# Altium footprint library Dual-In-Line Package.PcbLib: 120 footprints (part 6 of 8)
Each footprint in its own frame and in the unit in brackets; x right, y up, seen from the top. Pads: shape width x height; smd on the part's side, far side on the other; paste and mask are expansions set on the pad; w line width, h text height; cw(c..) or ccw(c..) is an arc to the next point about the centre after c.
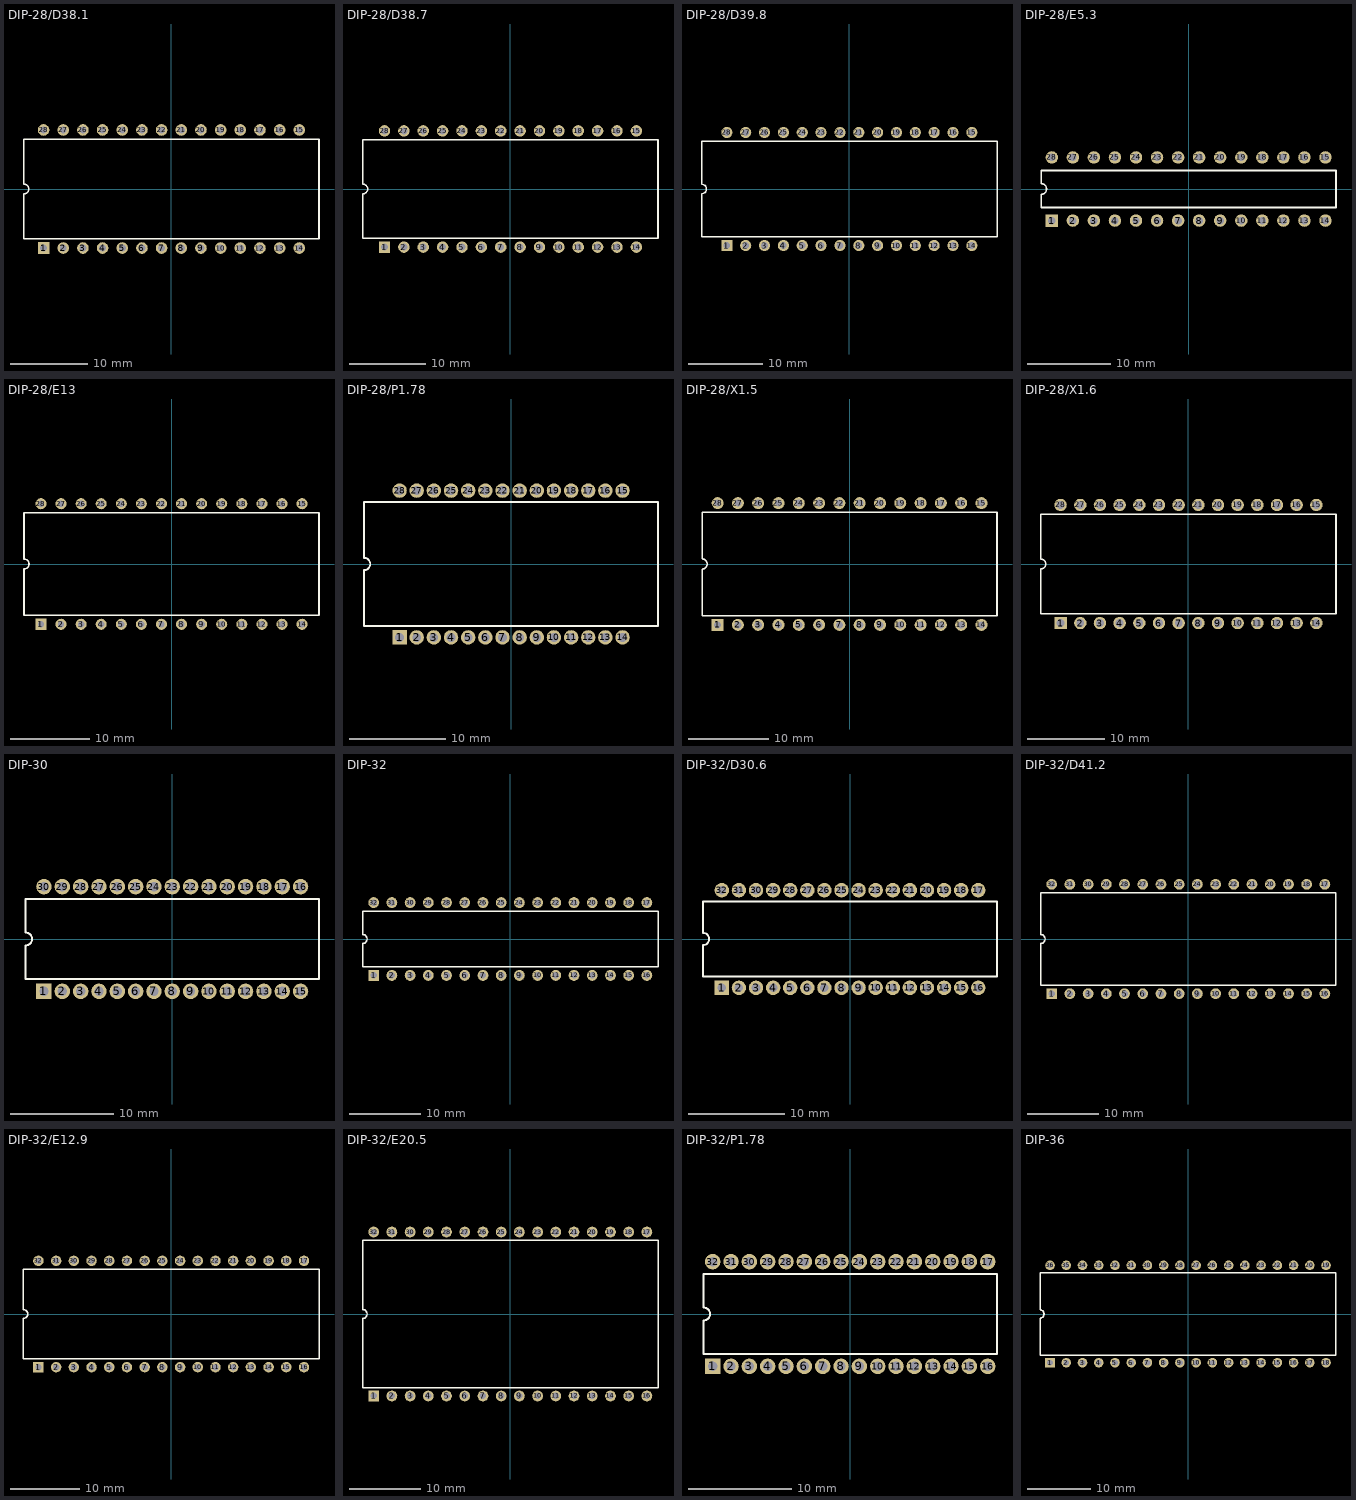
[diagram p5: the footprints below, top view; thin cyan lines are the x and y axes]

## DIP-28/D38.1 [mm] "DIP; 28 Leads; Row Spacing 15.24 mm; Pitch 2.54 mm"
height 5.08
pads (28):
  rect 1.5x1.5 hole 0.9: 1(-16.51,-7.62)
  round 1.5 hole 0.9: 2(-13.97,-7.62) 3(-11.43,-7.62) 4(-8.89,-7.62) 5(-6.35,-7.62) 6(-3.81,-7.62) 7(-1.27,-7.62) 8(1.27,-7.62) 9(3.81,-7.62) 10(6.35,-7.62) 11(8.89,-7.62) 12(11.43,-7.62) 13(13.97,-7.62) 14(16.51,-7.62) 15(16.51,7.62) 16(13.97,7.62) 17(11.43,7.62) 18(8.89,7.62) 19(6.35,7.62) 20(3.81,7.62) 21(1.27,7.62) 22(-1.27,7.62) 23(-3.81,7.62) 24(-6.35,7.62) 25(-8.89,7.62) 26(-11.43,7.62) 27(-13.97,7.62) 28(-16.51,7.62)
Top Overlay:
  lines w0.2: -19.05,-6.45 19.05,-6.45 19.05,6.45 -19.05,6.45 -19.05,0.635 cw(c-19.05,0) -19.05,-0.635 -19.05,-6.45

## DIP-28/D38.7 [mm] "DIP; 28 Leads; Row Spacing 15.24 mm; Pitch 2.54 mm"
height 4.8
pads (28):
  rect 1.5x1.5 hole 0.9: 1(-16.51,-7.62)
  round 1.5 hole 0.9: 2(-13.97,-7.62) 3(-11.43,-7.62) 4(-8.89,-7.62) 5(-6.35,-7.62) 6(-3.81,-7.62) 7(-1.27,-7.62) 8(1.27,-7.62) 9(3.81,-7.62) 10(6.35,-7.62) 11(8.89,-7.62) 12(11.43,-7.62) 13(13.97,-7.62) 14(16.51,-7.62) 15(16.51,7.62) 16(13.97,7.62) 17(11.43,7.62) 18(8.89,7.62) 19(6.35,7.62) 20(3.81,7.62) 21(1.27,7.62) 22(-1.27,7.62) 23(-3.81,7.62) 24(-6.35,7.62) 25(-8.89,7.62) 26(-11.43,7.62) 27(-13.97,7.62) 28(-16.51,7.62)
Top Overlay:
  lines w0.2: -19.35,-6.45 -19.35,-0.635 ccw(c-19.35,0) -19.35,0.635 -19.35,6.45 19.35,6.45 19.35,-6.45 -19.35,-6.45

## DIP-28/D39.8 [mm] "DIP; 28 Leads; Row Spacing 15.24 mm; Pitch 2.54 mm"
height 6.35
pads (28):
  rect 1.5x1.5 hole 0.9: 1(-16.51,-7.62)
  round 1.5 hole 0.9: 2(-13.97,-7.62) 3(-11.43,-7.62) 4(-8.89,-7.62) 5(-6.35,-7.62) 6(-3.81,-7.62) 7(-1.27,-7.62) 8(1.27,-7.62) 9(3.81,-7.62) 10(6.35,-7.62) 11(8.89,-7.62) 12(11.43,-7.62) 13(13.97,-7.62) 14(16.51,-7.62) 15(16.51,7.62) 16(13.97,7.62) 17(11.43,7.62) 18(8.89,7.62) 19(6.35,7.62) 20(3.81,7.62) 21(1.27,7.62) 22(-1.27,7.62) 23(-3.81,7.62) 24(-6.35,7.62) 25(-8.89,7.62) 26(-11.43,7.62) 27(-13.97,7.62) 28(-16.51,7.62)
Top Overlay:
  lines w0.2: -19.9,-6.45 -19.9,-0.635 ccw(c-19.9,0) -19.9,0.635 -19.9,6.45 19.9,6.45 19.9,-6.45 -19.9,-6.45

## DIP-28/E5.3 [mm] "28-Pin Plastic Dual In-Line Package (PDIP)"
height 4.58
pads (28):
  rect 1.5x1.5 hole 0.9: 1(-16.51,-3.81)
  round 1.5 hole 0.9: 2(-13.97,-3.81) 3(-11.43,-3.81) 4(-8.89,-3.81) 5(-6.35,-3.81) 6(-3.81,-3.81) 7(-1.27,-3.81) 8(1.27,-3.81) 9(3.81,-3.81) 10(6.35,-3.81) 11(8.89,-3.81) 12(11.43,-3.81) 13(13.97,-3.81) 14(16.51,-3.81) 15(16.51,3.81) 16(13.97,3.81) 17(11.43,3.81) 18(8.89,3.81) 19(6.35,3.81) 20(3.81,3.81) 21(1.27,3.81) 22(-1.27,3.81) 23(-3.81,3.81) 24(-6.35,3.81) 25(-8.89,3.81) 26(-11.43,3.81) 27(-13.97,3.81) 28(-16.51,3.81)
Top Overlay:
  lines w0.2: -17.78,-2.225 17.78,-2.225 17.78,2.225 -17.78,2.225 -17.78,0.635 cw(c-17.78,0) -17.78,-0.635 -17.78,-2.225

## DIP-28/E13 [mm] "DIP; 28 Leads; Row Spacing 15.24 mm; Pitch 2.54 mm"
height 7.75
pads (28):
  rect 1.4x1.4 hole 0.8: 1(-16.51,-7.62)
  round 1.4 hole 0.8: 2(-13.97,-7.62) 3(-11.43,-7.62) 4(-8.89,-7.62) 5(-6.35,-7.62) 6(-3.81,-7.62) 7(-1.27,-7.62) 8(1.27,-7.62) 9(3.81,-7.62) 10(6.35,-7.62) 11(8.89,-7.62) 12(11.43,-7.62) 13(13.97,-7.62) 14(16.51,-7.62) 15(16.51,7.62) 16(13.97,7.62) 17(11.43,7.62) 18(8.89,7.62) 19(6.35,7.62) 20(3.81,7.62) 21(1.27,7.62) 22(-1.27,7.62) 23(-3.81,7.62) 24(-6.35,7.62) 25(-8.89,7.62) 26(-11.43,7.62) 27(-13.97,7.62) 28(-16.51,7.62)
Top Overlay:
  lines w0.2: -18.65,-6.5 18.65,-6.5 18.65,6.5 -18.65,6.5 -18.65,0.635 cw(c-18.65,0) -18.65,-0.635 -18.65,-6.5

## DIP-28/P1.78 [mm] "DIP; 28 Leads; Row Spacing 15.24 mm; Pitch 1.778 mm"
height 5.08
pads (28):
  rect 1.5x1.5 hole 0.9: 1(-11.57,-7.62)
  round 1.5 hole 0.9: 2(-9.79,-7.62) 3(-8.01,-7.62) 4(-6.23,-7.62) 5(-4.45,-7.62) 6(-2.67,-7.62) 7(-0.89,-7.62) 8(0.89,-7.62) 9(2.67,-7.62) 10(4.45,-7.62) 11(6.23,-7.62) 12(8.01,-7.62) 13(9.79,-7.62) 14(11.57,-7.62) 15(11.57,7.62) 16(9.79,7.62) 17(8.01,7.62) 18(6.23,7.62) 19(4.45,7.62) 20(2.67,7.62) 21(0.89,7.62) 22(-0.89,7.62) 23(-2.67,7.62) 24(-4.45,7.62) 25(-6.23,7.62) 26(-8.01,7.62) 27(-9.79,7.62) 28(-11.57,7.62)
Top Overlay:
  lines w0.2: -15.25,-6.45 -15.25,-0.635 ccw(c-15.25,0) -15.25,0.635 -15.25,6.45 15.25,6.45 15.25,-6.45 -15.25,-6.45

## DIP-28/X1.5 [mm] "DIP; 28 Leads; Row Spacing 15.24 mm; Pitch 2.54 mm"
height 5.72
pads (28):
  rect 1.5x1.5 hole 0.9: 1(-16.51,-7.62)
  round 1.5 hole 0.9: 2(-13.97,-7.62) 3(-11.43,-7.62) 4(-8.89,-7.62) 5(-6.35,-7.62) 6(-3.81,-7.62) 7(-1.27,-7.62) 8(1.27,-7.62) 9(3.81,-7.62) 10(6.35,-7.62) 11(8.89,-7.62) 12(11.43,-7.62) 13(13.97,-7.62) 14(16.51,-7.62) 15(16.51,7.62) 16(13.97,7.62) 17(11.43,7.62) 18(8.89,7.62) 19(6.35,7.62) 20(3.81,7.62) 21(1.27,7.62) 22(-1.27,7.62) 23(-3.81,7.62) 24(-6.35,7.62) 25(-8.89,7.62) 26(-11.43,7.62) 27(-13.97,7.62) 28(-16.51,7.62)
Top Overlay:
  lines w0.2: -18.45,-6.45 -18.45,-0.635 ccw(c-18.45,0) -18.45,0.635 -18.45,6.45 18.45,6.45 18.45,-6.45 -18.45,-6.45

## DIP-28/X1.6 [mm] "DIP; 28 Leads; Row Spacing 15.24 mm; Pitch 2.54 mm"
height 5.89
pads (28):
  rect 1.6x1.6 hole 1: 1(-16.51,-7.62)
  round 1.6 hole 1: 2(-13.97,-7.62) 3(-11.43,-7.62) 4(-8.89,-7.62) 5(-6.35,-7.62) 6(-3.81,-7.62) 7(-1.27,-7.62) 8(1.27,-7.62) 9(3.81,-7.62) 10(6.35,-7.62) 11(8.89,-7.62) 12(11.43,-7.62) 13(13.97,-7.62) 14(16.51,-7.62) 15(16.51,7.62) 16(13.97,7.62) 17(11.43,7.62) 18(8.89,7.62) 19(6.35,7.62) 20(3.81,7.62) 21(1.27,7.62) 22(-1.27,7.62) 23(-3.81,7.62) 24(-6.35,7.62) 25(-8.89,7.62) 26(-11.43,7.62) 27(-13.97,7.62) 28(-16.51,7.62)
Top Overlay:
  lines w0.2: -19.05,-6.4 -19.05,-0.635 ccw(c-19.05,0) -19.05,0.635 -19.05,6.4 19.05,6.4 19.05,-6.4 -19.05,-6.4

## DIP-30 [mm] "DIP; 30 Leads; Row Spacing 10.16 mm; Pitch 1.778 mm"
height 5.08
pads (30):
  rect 1.5x1.5 hole 0.9: 1(-12.46,-5.08)
  round 1.5 hole 0.9: 2(-10.68,-5.08) 3(-8.9,-5.08) 4(-7.12,-5.08) 5(-5.34,-5.08) 6(-3.56,-5.08) 7(-1.78,-5.08) 8(0,-5.08) 9(1.78,-5.08) 10(3.56,-5.08) 11(5.34,-5.08) 12(7.12,-5.08) 13(8.9,-5.08) 14(10.68,-5.08) 15(12.46,-5.08) 16(12.46,5.08) 17(10.68,5.08) 18(8.9,5.08) 19(7.12,5.08) 20(5.34,5.08) 21(3.56,5.08) 22(1.78,5.08) 23(0,5.08) 24(-1.78,5.08) 25(-3.56,5.08) 26(-5.34,5.08) 27(-7.12,5.08) 28(-8.9,5.08) 29(-10.68,5.08) 30(-12.46,5.08)
Top Overlay:
  lines w0.2: -14.25,-3.9 14.25,-3.9 14.25,3.9 -14.25,3.9 -14.25,0.635 cw(c-14.25,0) -14.25,-0.635 -14.25,-3.9

## DIP-32 [mm] "DIP, Plastic; 32 Leads; Row Spacing 10.16 mm; Pitch 2.54 mm"
height 5.34
pads (32):
  rect 1.5x1.5 hole 0.9: 1(-19.05,-5.08)
  round 1.5 hole 0.9: 2(-16.51,-5.08) 3(-13.97,-5.08) 4(-11.43,-5.08) 5(-8.89,-5.08) 6(-6.35,-5.08) 7(-3.81,-5.08) 8(-1.27,-5.08) 9(1.27,-5.08) 10(3.81,-5.08) 11(6.35,-5.08) 12(8.89,-5.08) 13(11.43,-5.08) 14(13.97,-5.08) 15(16.51,-5.08) 16(19.05,-5.08) 17(19.05,5.08) 18(16.51,5.08) 19(13.97,5.08) 20(11.43,5.08) 21(8.89,5.08) 22(6.35,5.08) 23(3.81,5.08) 24(1.27,5.08) 25(-1.27,5.08) 26(-3.81,5.08) 27(-6.35,5.08) 28(-8.89,5.08) 29(-11.43,5.08) 30(-13.97,5.08) 31(-16.51,5.08) 32(-19.05,5.08)
Top Overlay:
  lines w0.2: -20.6,-3.9 -20.6,-0.635 ccw(c-20.6,0) -20.6,0.635 -20.6,3.9 20.6,3.9 20.6,-3.9 -20.6,-3.9

## DIP-32/D30.6 [mm] "DIP, Ceramic, Shrink; 32 Leads; Row Spacing 10.16 mm; Pitch 1.78 mm"
height 4.75
pads (32):
  rect 1.5x1.5 hole 0.9: 1(-13.35,-5.08)
  round 1.5 hole 0.9: 2(-11.57,-5.08) 3(-9.79,-5.08) 4(-8.01,-5.08) 5(-6.23,-5.08) 6(-4.45,-5.08) 7(-2.67,-5.08) 8(-0.89,-5.08) 9(0.89,-5.08) 10(2.67,-5.08) 11(4.45,-5.08) 12(6.23,-5.08) 13(8.01,-5.08) 14(9.79,-5.08) 15(11.57,-5.08) 16(13.35,-5.08) 17(13.35,5.08) 18(11.57,5.08) 19(9.79,5.08) 20(8.01,5.08) 21(6.23,5.08) 22(4.45,5.08) 23(2.67,5.08) 24(0.89,5.08) 25(-0.89,5.08) 26(-2.67,5.08) 27(-4.45,5.08) 28(-6.23,5.08) 29(-8.01,5.08) 30(-9.79,5.08) 31(-11.57,5.08) 32(-13.35,5.08)
Top Overlay:
  lines w0.2: -15.3,-3.9 -15.3,-0.635 ccw(c-15.3,0) -15.3,0.635 -15.3,3.9 15.3,3.9 15.3,-3.9 -15.3,-3.9

## DIP-32/D41.2 [mm] "DIP, Ceramic; 32 Leads; Row Spacing 15.24 mm; Pitch 2.54 mm"
height 5.08
pads (32):
  rect 1.5x1.5 hole 0.9: 1(-19.05,-7.62)
  round 1.5 hole 0.9: 2(-16.51,-7.62) 3(-13.97,-7.62) 4(-11.43,-7.62) 5(-8.89,-7.62) 6(-6.35,-7.62) 7(-3.81,-7.62) 8(-1.27,-7.62) 9(1.27,-7.62) 10(3.81,-7.62) 11(6.35,-7.62) 12(8.89,-7.62) 13(11.43,-7.62) 14(13.97,-7.62) 15(16.51,-7.62) 16(19.05,-7.62) 17(19.05,7.62) 18(16.51,7.62) 19(13.97,7.62) 20(11.43,7.62) 21(8.89,7.62) 22(6.35,7.62) 23(3.81,7.62) 24(1.27,7.62) 25(-1.27,7.62) 26(-3.81,7.62) 27(-6.35,7.62) 28(-8.89,7.62) 29(-11.43,7.62) 30(-13.97,7.62) 31(-16.51,7.62) 32(-19.05,7.62)
Top Overlay:
  lines w0.2: -20.6,-6.45 20.6,-6.45 20.6,6.45 -20.6,6.45 -20.6,0.635 cw(c-20.6,0) -20.6,-0.635 -20.6,-6.45

## DIP-32/E12.9 [mm] "Ceramic Frit-seal DIP, Window; 32 Leads; Row Spacing 15.24 mm; Pitch 2.54 mm"
height 5.72
pads (32):
  rect 1.5x1.5 hole 0.9: 1(-19.05,-7.62)
  round 1.5 hole 0.9: 2(-16.51,-7.62) 3(-13.97,-7.62) 4(-11.43,-7.62) 5(-8.89,-7.62) 6(-6.35,-7.62) 7(-3.81,-7.62) 8(-1.27,-7.62) 9(1.27,-7.62) 10(3.81,-7.62) 11(6.35,-7.62) 12(8.89,-7.62) 13(11.43,-7.62) 14(13.97,-7.62) 15(16.51,-7.62) 16(19.05,-7.62) 17(19.05,7.62) 18(16.51,7.62) 19(13.97,7.62) 20(11.43,7.62) 21(8.89,7.62) 22(6.35,7.62) 23(3.81,7.62) 24(1.27,7.62) 25(-1.27,7.62) 26(-3.81,7.62) 27(-6.35,7.62) 28(-8.89,7.62) 29(-11.43,7.62) 30(-13.97,7.62) 31(-16.51,7.62) 32(-19.05,7.62)
Top Overlay:
  lines w0.2: -21.2,-6.45 -21.2,-0.635 ccw(c-21.2,0) -21.2,0.635 -21.2,6.45 21.2,6.45 21.2,-6.45 -21.2,-6.45

## DIP-32/E20.5 [mm] "DIP; 32 Leads; Row Spacing 22.86 mm; Pitch 2.54 mm"
height 4.22
pads (32):
  rect 1.5x1.5 hole 0.9: 1(-19.05,-11.43)
  round 1.5 hole 0.9: 2(-16.51,-11.43) 3(-13.97,-11.43) 4(-11.43,-11.43) 5(-8.89,-11.43) 6(-6.35,-11.43) 7(-3.81,-11.43) 8(-1.27,-11.43) 9(1.27,-11.43) 10(3.81,-11.43) 11(6.35,-11.43) 12(8.89,-11.43) 13(11.43,-11.43) 14(13.97,-11.43) 15(16.51,-11.43) 16(19.05,-11.43) 17(19.05,11.43) 18(16.51,11.43) 19(13.97,11.43) 20(11.43,11.43) 21(8.89,11.43) 22(6.35,11.43) 23(3.81,11.43) 24(1.27,11.43) 25(-1.27,11.43) 26(-3.81,11.43) 27(-6.35,11.43) 28(-8.89,11.43) 29(-11.43,11.43) 30(-13.97,11.43) 31(-16.51,11.43) 32(-19.05,11.43)
Top Overlay:
  lines w0.2: -20.6,-10.25 -20.6,-0.635 ccw(c-20.6,0) -20.6,0.635 -20.6,10.25 20.6,10.25 20.6,-10.25 -20.6,-10.25

## DIP-32/P1.78 [mm] "DIP, Plastic Shrink; 32 Leads; Row Spacing 10.16 mm; Pitch 1.78 mm"
height 5.08
pads (32):
  rect 1.5x1.5 hole 0.9: 1(-13.35,-5.08)
  round 1.5 hole 0.9: 2(-11.57,-5.08) 3(-9.79,-5.08) 4(-8.01,-5.08) 5(-6.23,-5.08) 6(-4.45,-5.08) 7(-2.67,-5.08) 8(-0.89,-5.08) 9(0.89,-5.08) 10(2.67,-5.08) 11(4.45,-5.08) 12(6.23,-5.08) 13(8.01,-5.08) 14(9.79,-5.08) 15(11.57,-5.08) 16(13.35,-5.08) 17(13.35,5.08) 18(11.57,5.08) 19(9.79,5.08) 20(8.01,5.08) 21(6.23,5.08) 22(4.45,5.08) 23(2.67,5.08) 24(0.89,5.08) 25(-0.89,5.08) 26(-2.67,5.08) 27(-4.45,5.08) 28(-6.23,5.08) 29(-8.01,5.08) 30(-9.79,5.08) 31(-11.57,5.08) 32(-13.35,5.08)
Top Overlay:
  lines w0.2: -14.25,-0.635 -14.25,-3.9 14.25,-3.9 14.25,3.9 -14.25,3.9 -14.25,0.635 ; -14.24,-0.635 ccw(c-14.24,0) -14.24,0.635

## DIP-36 [mm] "DIP, Ceramic; 36 Leads; Row Spacing 15.24 mm; Pitch 2.54 mm"
height 5.08
pads (36):
  rect 1.5x1.5 hole 0.9: 1(-21.59,-7.62)
  round 1.5 hole 0.9: 2(-19.05,-7.62) 3(-16.51,-7.62) 4(-13.97,-7.62) 5(-11.43,-7.62) 6(-8.89,-7.62) 7(-6.35,-7.62) 8(-3.81,-7.62) 9(-1.27,-7.62) 10(1.27,-7.62) 11(3.81,-7.62) 12(6.35,-7.62) 13(8.89,-7.62) 14(11.43,-7.62) 15(13.97,-7.62) 16(16.51,-7.62) 17(19.05,-7.62) 18(21.59,-7.62) 19(21.59,7.62) 20(19.05,7.62) 21(16.51,7.62) 22(13.97,7.62) 23(11.43,7.62) 24(8.89,7.62) 25(6.35,7.62) 26(3.81,7.62) 27(1.27,7.62) 28(-1.27,7.62) 29(-3.81,7.62) 30(-6.35,7.62) 31(-8.89,7.62) 32(-11.43,7.62) 33(-13.97,7.62) 34(-16.51,7.62) 35(-19.05,7.62) 36(-21.59,7.62)
Top Overlay:
  lines w0.2: -23.15,-6.45 -23.15,-0.635 ccw(c-23.15,0) -23.15,0.635 -23.15,6.45 23.15,6.45 23.15,-6.45 -23.15,-6.45